# EAGLE library part IV-25_DISP_T3 (library vfd-robjen)
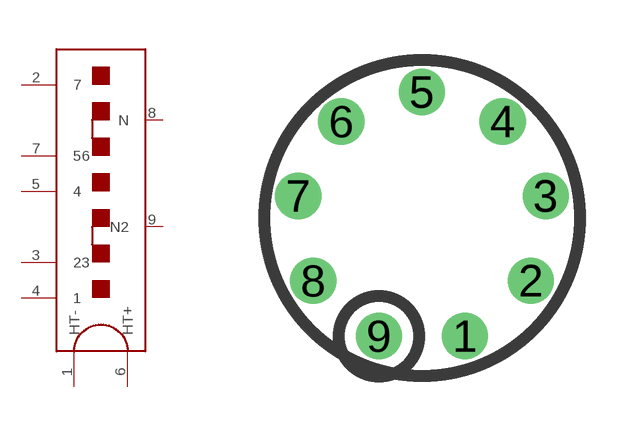
[diagram p5: symbol with the pads of IV-25; footprint IV-25]

Designator prefix -

## IV-25_DISP_T3  [IV-25]
1  HT-
2  7  in
3  23  in
4  1  in
5  4  in
6  HT+
7  56  in
8  N  nc
9  N2  nc

## Footprint IV-25 (pad centres in mm)
Eagle SCR autogenerated 9 pin Nixie socket
drill 0.65: 1 1.076,-2.955; 2 2.724,-1.572; 3 3.097,0.546; 4 2.022,2.409; 5 0,3.145; 6 -2.022,2.409; 7 -3.097,0.546; 8 -2.724,-1.572; 9 -1.076,-2.955